# EAGLE library part POLOLU_DRV8835 (library CMU-ArtFab)
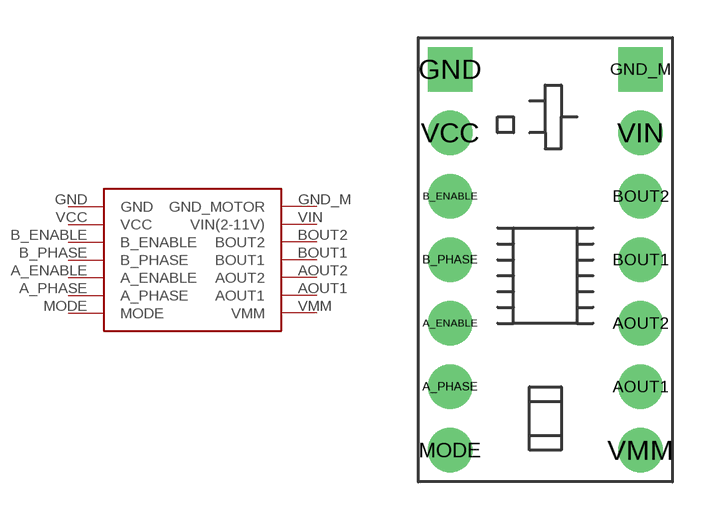
[diagram p5: symbol with the pads of POLOLU_DRV8835; footprint POLOLU_DRV8835]

Designator prefix -

## POLOLU_DRV8835  [POLOLU_DRV8835]
A_ENABLE  A_ENABLE
A_PHASE  A_PHASE
AOUT1  AOUT1
AOUT2  AOUT2
B_ENABLE  B_ENABLE
B_PHASE  B_PHASE
BOUT1  BOUT1
BOUT2  BOUT2
GND  GND
GND_M  GND_MOTOR
MODE  MODE
VCC  VCC
VIN  VIN(2-11V)
VMM  VMM

## Footprint POLOLU_DRV8835 (pad centres in mm)
drill 1.016 pad 1.778: A_ENABLE -3.81,-3.81; A_PHASE -3.81,-6.35; AOUT1 3.81,-6.35; AOUT2 3.81,-3.81; B_ENABLE -3.81,1.27; B_PHASE -3.81,-1.27; BOUT1 3.81,-1.27; BOUT2 3.81,1.27; MODE -3.81,-8.89; VCC -3.81,3.81; VIN 3.81,3.81; VMM 3.81,-8.89
drill 1.016 pad 1.778 square: GND -3.81,6.35; GND_M 3.81,6.35